# Altium integrated library MAX15027ATB_T.IntLib: 1 symbol
Pins are listed as number, name and electrical type; pins without a type are passive.

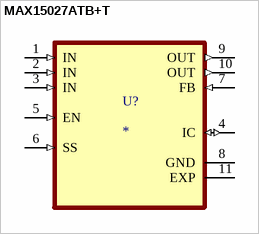
[diagram p0: symbol MAX15027ATB+T]

## MAX15027ATB+T
designator U?
Linear Voltage Regulator IC Positive Adjustable 1 Output 1A 10-TDFN (3x3); MF: Maxim Integrated Products; MP: MAX15027ATB+T; SnapEDA_Link: https://www.snapeda.com/parts/MAX15027ATB+T/Maxim+Integrated/view-part/?ref=snap; Package: TDFN-EP-10 Maxim; Value: *; Check_prices: https://www.snapeda.com/parts/MAX15027ATB+T/Maxim+Integrated/view-part/?ref=eda
footprint SON50P300X300X80-11N
pins: 1 IN (in), 2 IN (in), 3 IN (in), 4 IC (io), 5 EN (in), 6 SS (in), 7 FB (in), 8 GND (power), 9 OUT (out), 10 OUT (out), 11 EXP (power)